# Altium footprint library MY.PcbLib: 177 footprints (part 5 of 12)
Each footprint in its own frame and in the unit in brackets; x right, y up, seen from the top. Pads: shape width x height; smd on the part's side, far side on the other; paste and mask are expansions set on the pad; w line width, h text height; cw(c..) or ccw(c..) is an arc to the next point about the centre after c.
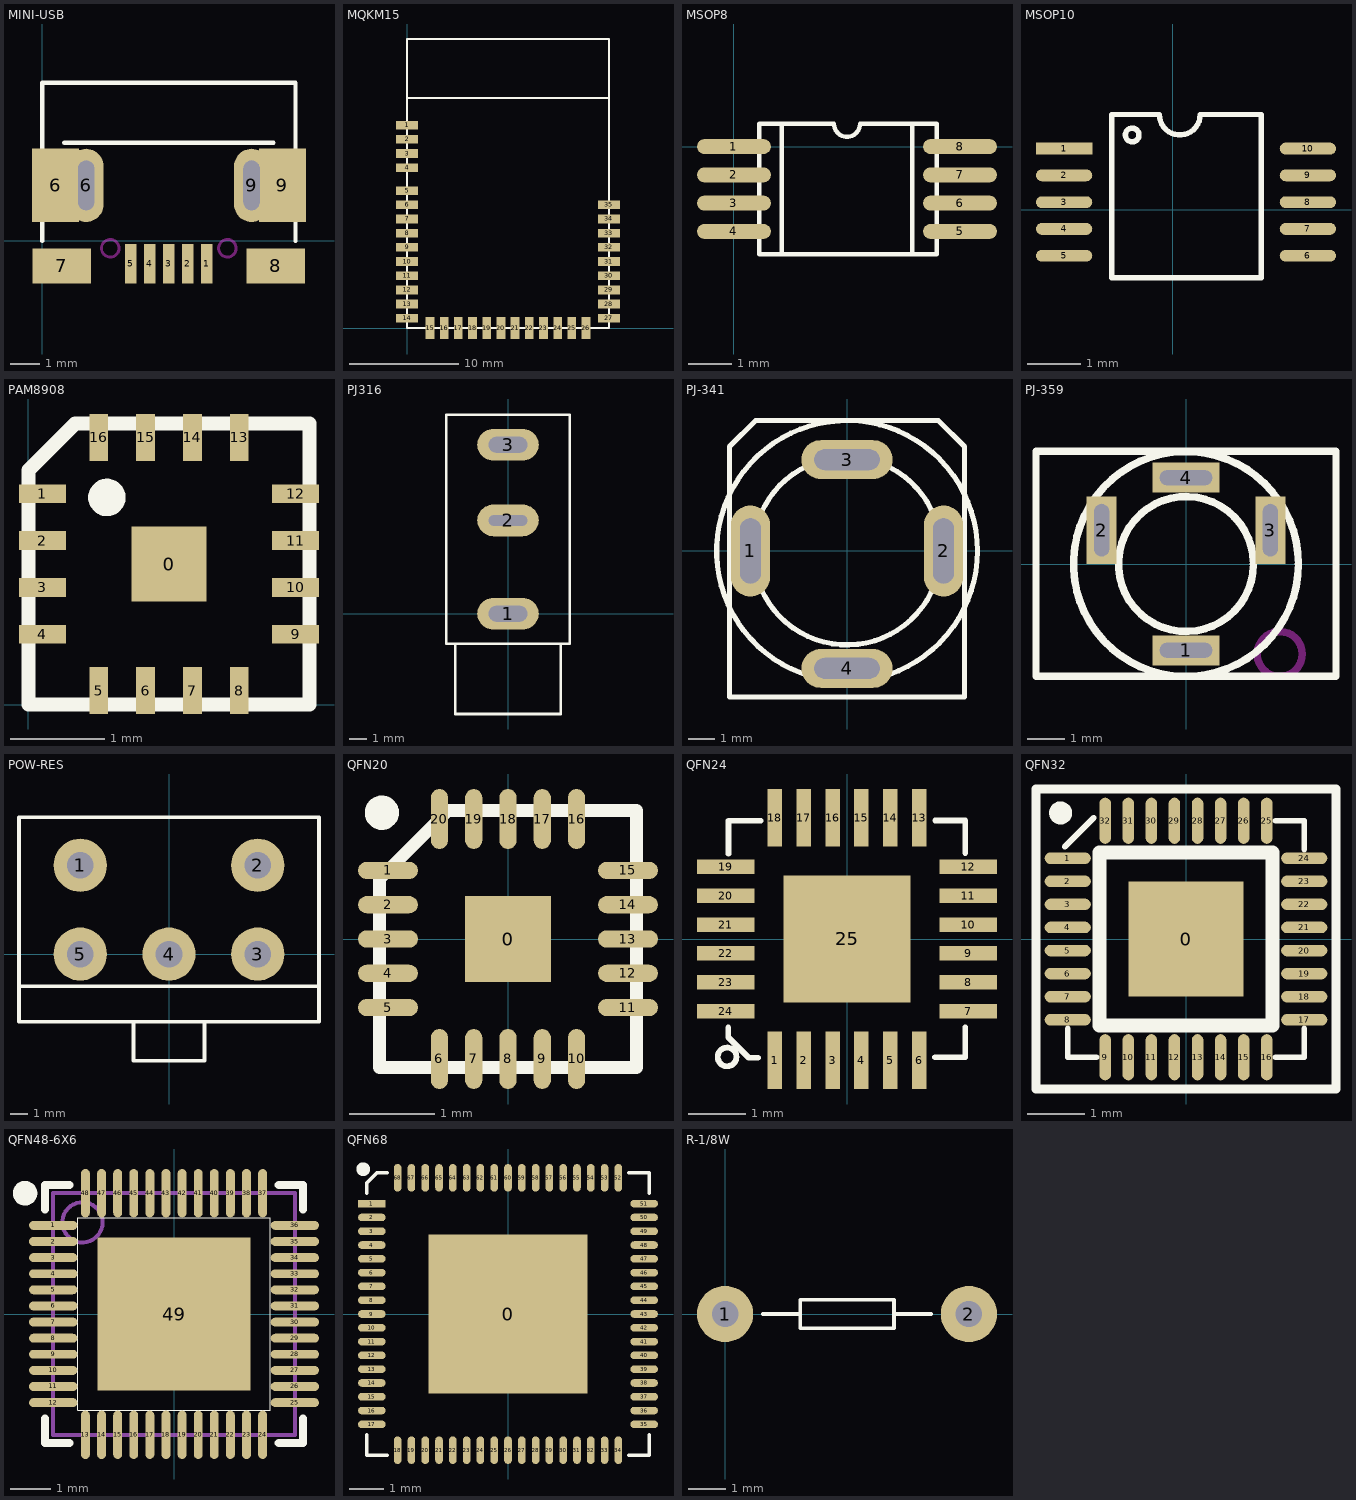
[diagram p4: the footprints below, top view; thin cyan lines are the x and y axes]

## MINI-USB [mm]
pads (11):
  rect 0.4x1.35 smd: 1(5.625,-0.775) 2(4.975,-0.775) 3(4.325,-0.775) 4(3.675,-0.775) 5(3.025,-0.775)
  rect 1.6x2.5 smd: 6(0.457,1.9) 9(8.204,1.9)
  oval 1.2x2.5 hole 0.55 slot 1.7 at 90 deg: 6(1.5,1.9) 9(7.15,1.9)
  rect 2x1.2 smd: 7(0.675,-0.85) 8(7.975,-0.85)
Top Overlay:
  lines w0.15: 0,0 0,5.4 8.65,5.4 8.65,0 ; 0.75,3.35 7.9,3.35
Keep-Out Layer:
  circle w0.1: c2.325,-0.25 r0.3
  circle w0.1: c6.325,-0.25 r0.3

## MQKM15 [mm]
pads (35):
  rect 2x0.8 smd: 1(0,18.6) 2(0,17.3) 3(0,16) 4(0,14.7) 5(0,12.6) 6(0,11.3) 7(0,10) 8(0,8.7) 9(0,7.4) 10(0,6.1) 11(0,4.8) 12(0,3.5) 13(0,2.2) 14(0,0.9) 27(18.5,0.9) 28(18.5,2.2) 29(18.5,3.5) 30(18.5,4.8) 31(18.5,6.1) 32(18.5,7.4) 33(18.5,8.7) 34(18.5,10) 35(18.5,11.3)
  rect 0.8x2 smd: 15(2.1,0) 16(3.4,0) 17(4.7,0) 18(6,0) 19(7.3,0) 20(8.6,0) 21(9.9,0) 22(11.2,0) 23(12.5,0) 24(13.8,0) 25(15.1,0) 26(16.4,0)
Top Overlay:
  lines w0.2: 0,21.1 18.5,21.1 ; 0,0 0,26.5 18.5,26.5 18.5,0 0,0

## MSOP8 [mm]
pads (8):
  oval 1.7x0.35 smd: 1(0,0) 2(0,-0.65) 3(0,-1.3) 4(0,-1.95) 5(5.2,-1.95) 6(5.2,-1.3) 7(5.2,-0.65) 8(5.2,0)
Top Overlay:
  lines w0.1: 2.3,0.525 ccw(c2.6,0.525) 2.9,0.525 ; 2.3,0.525 ccw(c2.6,0.525) 2.9,0.525 ; 2.3,0.525 0.585,0.525 0.585,-2.475 4.665,-2.475 4.665,0.525 2.9,0.525 ; 2.3,0.525 1.1,0.525 1.1,-2.475 4.1,-2.475 4.1,0.525 2.9,0.525

## MSOP10 [mm]
pads (10):
  rect 1.05x0.22 smd: 1(-2.032,1.143)
  oval 1.05x0.22 smd: 2(-2.032,0.643) 3(-2.032,0.143) 4(-2.032,-0.357) 5(-2.032,-0.857) 6(2.518,-0.857) 7(2.518,-0.357) 8(2.518,0.143) 9(2.518,0.643) 10(2.518,1.143)
Top Overlay:
  circle w0.1: c-0.762,1.397 r0.127
  lines w0.1: -1.143,-1.27 -1.143,1.778 -0.254,1.778 ccw(c0.127,1.778) 0.508,1.778 1.651,1.778 1.651,-1.27 -1.143,-1.27

## PAM8908 [mm]
pads (17):
  rect 0.8x0.8 smd: 0(1.5,1.5)
  rect 0.5x0.2 smd: 1(0.15,2.25) 2(0.15,1.75) 3(0.15,1.25) 4(0.15,0.75) 9(2.85,0.75) 10(2.85,1.25) 11(2.85,1.75) 12(2.85,2.25)
  rect 0.2x0.5 smd: 5(0.75,0.15) 6(1.25,0.15) 7(1.75,0.15) 8(2.25,0.15) 13(2.25,2.85) 14(1.75,2.85) 15(1.25,2.85) 16(0.75,2.85)
Top Overlay:
  circle w0.2: c0.838,2.21 r0.1
  lines w0.15: 0,0 0,2.5 0.5,3 3,3 3,0 0,0

## PCBComponent_1 - duplicate [mm]

## PJ316 [mm]
pads (3):
  oval 3.5x1.8 hole 0.9 slot 2.2 at 0 deg: 1(0,0) 3(0,9.6)
  oval 3.5x1.8 hole 0.6 slot 2.2 at 0 deg: 2(0,5.3)
Top Overlay:
  lines w0.15: -3.5,-1.7 3.5,-1.7 3.5,11.3 -3.5,11.3 -3.5,-1.7 ; -3,-5.7 3,-5.7 3,-1.7 -3,-1.7 -3,-5.7

## PJ-341 [mm]
pads (4):
  oval 1.5x3.5 hole 0.8 slot 2.5 at 90 deg: 1(-3.7,0) 2(3.7,0)
  oval 3.5x1.5 hole 0.8 slot 2.5 at 0 deg: 3(0,3.5) 4(0,-4.5)
Top Overlay:
  circle w0.2: c0,0 r3.6
  circle w0.2: c0,0 r5
  lines w0.2: -3.5,5 -4.5,4 -4.5,-5.6 4.5,-5.6 4.5,4 3.5,5 ; -3.5,5 -3.5,5 ; -3.5,5 3.5,5 ; 3.5,5 3.5,5

## PJ-359 [mm]
pads (4):
  rect 1.8x0.8 hole 0.4 slot 1.4 at 0 deg: 1(0,-2.3) 4(0,2.3)
  rect 0.8x1.8 hole 0.4 slot 1.4 at 90 deg: 2(-2.25,0.9) 3(2.25,0.9)
Top Overlay:
  circle w0.2: c0,0 r1.8
  circle w0.2: c0,0 r3
  lines w0.2: -4,-3 4,-3 4,3 -4,3 -4,-3
Keep-Out Layer:
  circle w0.2: c2.5,-2.4 r0.6

## POW-RES [mm]
pads (5):
  round 3 hole 1.5: 1(-5,5) 2(5,5) 3(5,0) 4(0,0) 5(-5,0)
Top Overlay:
  lines w0.2: -8.45,-1.8 8.425,-1.8 ; -2,-3.8 -2,-6 2,-6 2,-3.8 ; 8.425,-2.137 8.45,-2.112 ; -8.45,-3.8 8.45,-3.8 8.45,7.7 -8.45,7.7 -8.45,-3.8

## QFN20 [mm]
pads (21):
  rect 1x1 smd: 0(0,0)
  oval 0.7x0.2 smd: 1(-1.4,0.8) 2(-1.4,0.4) 3(-1.4,0) 4(-1.4,-0.4) 5(-1.4,-0.8) 11(1.4,-0.8) 12(1.4,-0.4) 13(1.4,0) 14(1.4,0.4) 15(1.4,0.8)
  oval 0.2x0.7 smd: 6(-0.8,-1.4) 7(-0.4,-1.4) 8(0,-1.4) 9(0.4,-1.4) 10(0.8,-1.4) 16(0.8,1.4) 17(0.4,1.4) 18(0,1.4) 19(-0.4,1.4) 20(-0.8,1.4)
Top Overlay:
  circle w0.2: c-1.472,1.473 r0.1
  lines w0.15: -1.5,-1.5 -1.5,0.7 -0.7,1.5 1.5,1.5 1.5,-1.5 -1.5,-1.5

## QFN24 [mm]
pads (25):
  rect 0.25x1 smd: 1(-1.254,-2.095) 2(-0.754,-2.095) 3(-0.254,-2.095) 4(0.246,-2.095) 5(0.746,-2.095) 6(1.246,-2.095) 13(1.246,2.105) 14(0.746,2.105) 15(0.246,2.105) 16(-0.254,2.105) 17(-0.754,2.105) 18(-1.254,2.105)
  rect 1x0.25 smd: 7(2.096,-1.245) 8(2.096,-0.745) 9(2.096,-0.245) 10(2.096,0.255) 11(2.096,0.755) 12(2.096,1.255) 19(-2.104,1.255) 20(-2.104,0.755) 21(-2.104,0.255) 22(-2.104,-0.245) 23(-2.104,-0.745) 24(-2.104,-1.245)
  rect 2.2x2.2 smd: 25(-0.004,0.005)
Top Overlay:
  circle w0.1: c-2.082,-2.039 r0.162
  lines w0.1: -2.062,-1.528 -2.062,-1.698 -1.706,-2.054 -1.548,-2.054 ; -2.058,1.482 -2.058,2.054 -1.498,2.054 ; 1.52,-2.043 2.047,-2.043 2.047,-1.524 ; 1.524,2.061 2.046,2.061 2.046,1.497

## QFN32 [mm]
pads (33):
  rect 2x2 smd: 0(0,0)
  oval 0.8x0.2 smd: 1(-2.05,1.4) 2(-2.05,1) 3(-2.05,0.6) 4(-2.05,0.2) 5(-2.05,-0.2) 6(-2.05,-0.6) 7(-2.05,-1) 8(-2.05,-1.4) 17(2.05,-1.4) 18(2.05,-1) 19(2.05,-0.6) 20(2.05,-0.2) 21(2.05,0.2) 22(2.05,0.6) 23(2.05,1) 24(2.05,1.4)
  oval 0.2x0.8 smd: 9(-1.4,-2.05) 10(-1,-2.05) 11(-0.6,-2.05) 12(-0.2,-2.05) 13(0.2,-2.05) 14(0.6,-2.05) 15(1,-2.05) 16(1.4,-2.05) 25(1.4,2.05) 26(1,2.05) 27(0.6,2.05) 28(0.2,2.05) 29(-0.2,2.05) 30(-0.6,2.05) 31(-1,2.05) 32(-1.4,2.05)
Top Overlay:
  circle w0.2: c-2.173,2.185 r0.1
  lines w0.1: -2.1,1.6 -1.6,2.1 ; -2.05,-1.55 -2.05,-2.05 -1.55,-2.05 ; 1.55,-2.05 2.05,-2.05 2.05,-1.55 ; 1.55,2.05 2.05,2.05 2.05,1.55
  lines w0.15: -2.6,-2.6 2.6,-2.6 2.6,2.6 -2.6,2.6 -2.6,-2.6
  lines w0.25: -1.5,-1.5 -1.5,1.5 1.5,1.5 1.5,-1.5 -1.5,-1.5

## QFN48-6X6 [mm]
pads (49):
  oval 1.2x0.22 smd mask+0.051: 1(-3,2.2) 2(-3,1.8) 3(-3,1.4) 4(-3,1) 5(-3,0.6) 6(-3,0.2) 7(-3,-0.2) 8(-3,-0.6) 9(-3,-1) 10(-3,-1.4) 11(-3,-1.8) 12(-3,-2.2) 25(3,-2.2) 26(3,-1.8) 27(3,-1.4) 28(3,-1) 29(3,-0.6) 30(3,-0.2) 31(3,0.2) 32(3,0.6) 33(3,1) 34(3,1.4) 35(3,1.8) 36(3,2.2)
  oval 0.22x1.2 smd mask+0.051: 13(-2.2,-3) 14(-1.8,-3) 15(-1.4,-3) 16(-1,-3) 17(-0.6,-3) 18(-0.2,-3) 19(0.2,-3) 20(0.6,-3) 21(1,-3) 22(1.4,-3) 23(1.8,-3) 24(2.2,-3) 37(2.2,3) 38(1.8,3) 39(1.4,3) 40(1,3) 41(0.6,3) 42(0.2,3) 43(-0.2,3) 44(-0.6,3) 45(-1,3) 46(-1.4,3) 47(-1.8,3) 48(-2.2,3)
  rect 3.8x3.8 smd mask+0.051: 49(0,0)
Top Overlay:
  circle w0.31: c-3.7,3 r0.15
  lines w0.025: -2.39,-2.388 -2.39,2.389 2.375,2.389 2.388,2.389 2.388,-2.388 -2.39,-2.388
  lines w0.2: -3.2,-2.6 -3.2,-3.2 -2.6,-3.2 ; -3.2,2.6 -3.2,3.2 -2.6,3.2 ; 2.6,-3.2 3.2,-3.2 3.2,-2.6 ; 2.6,3.2 3.2,3.2 3.2,2.6
Mechanical 13:
  circle w0.1: c-2.275,2.275 r0.5
  lines w0.1: -3,-3 -3,3 3,3 3,-3 -3,-3
3D body "User Library-QFN 48 6x6 pitch 0_4.STEP": height 0.65, standoff -0.02, extent -3.02,-3.02 3.02,3.02

## QFN68 [mm]
pads (69):
  rect 4.6x4.6 smd: 0(0,0)
  rect 0.8x0.22 smd: 1(-3.95,3.2)
  oval 0.8x0.22 smd: 2(-3.95,2.8) 3(-3.95,2.4) 4(-3.95,2) 5(-3.95,1.6) 6(-3.95,1.2) 7(-3.95,0.8) 8(-3.95,0.4) 9(-3.95,0) 10(-3.95,-0.4) 11(-3.95,-0.8) 12(-3.95,-1.2) 13(-3.95,-1.6) 14(-3.95,-2) 15(-3.95,-2.4) 16(-3.95,-2.8) 17(-3.95,-3.2) 35(3.95,-3.2) 36(3.95,-2.8) 37(3.95,-2.4) 38(3.95,-2) 39(3.95,-1.6) 40(3.95,-1.2) 41(3.95,-0.8) 42(3.95,-0.4) 43(3.95,0) 44(3.95,0.4) 45(3.95,0.8) 46(3.95,1.2) 47(3.95,1.6) 48(3.95,2) 49(3.95,2.4) 50(3.95,2.8) 51(3.95,3.2)
  oval 0.22x0.8 smd: 18(-3.2,-3.95) 19(-2.8,-3.95) 20(-2.4,-3.95) 21(-2,-3.95) 22(-1.6,-3.95) 23(-1.2,-3.95) 24(-0.8,-3.95) 25(-0.4,-3.95) 26(0,-3.95) 27(0.4,-3.95) 28(0.8,-3.95) 29(1.2,-3.95) 30(1.6,-3.95) 31(2,-3.95) 32(2.4,-3.95) 33(2.8,-3.95) 34(3.2,-3.95) 52(3.2,3.95) 53(2.8,3.95) 54(2.4,3.95) 55(2,3.95) 56(1.6,3.95) 57(1.2,3.95) 58(0.8,3.95) 59(0.4,3.95) 60(0,3.95) 61(-0.4,3.95) 62(-0.8,3.95) 63(-1.2,3.95) 64(-1.6,3.95) 65(-2,3.95) 66(-2.4,3.95) 67(-2.8,3.95) 68(-3.2,3.95)
Top Overlay:
  circle w0.2: c-4.2,4.2 r0.1
  lines w0.1: -4.1,-3.5 -4.1,-4.1 -3.5,-4.1 ; -4.1,3.5 -4.1,3.8 ; -3.5,4.1 -3.8,4.1 -4.1,3.8 ; 3.5,-4.1 4.1,-4.1 4.1,-3.5 ; 3.5,4.1 4.1,4.1 4.1,3.5 ; -4.1,3.8 -4.1,3.8

## R-1/8W [mm]
pads (2):
  round 1.5 hole 0.7: 1(0,0) 2(6.5,0)
Top Overlay:
  lines w0.1: 1,0 2,0 ; 4.5,0 5.5,0 ; 2,-0.381 4.5,-0.381 4.5,0.381 2,0.381 2,-0.381